# EAGLE library part REF5050 (library texas-instruments.2)
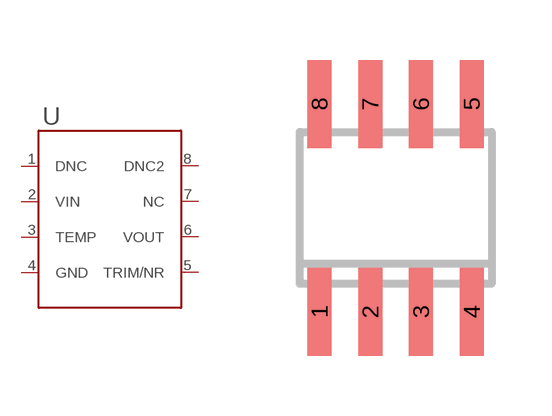
[diagram p2: symbol with the pads of SO-08; footprint SO-08]

Designator prefix -

## REF5050  [SO-08]
1  DNC
2  VIN
3  TEMP
4  GND
5  TRIM/NR
6  VOUT
7  NC
8  DNC2

## Footprint SO-08 (pad centres in mm)
D (R-PDSO-G8) Plastic Small Outline Package Source: http://focus.ti.com/lit/ds/symlink/sn65als176.pdf
smd 0.6 x 2.2: 1 -1.905,-2.6; 2 -0.635,-2.6; 3 0.635,-2.6; 4 1.905,-2.6; 5 1.905,2.6; 6 0.635,2.6; 7 -0.635,2.6; 8 -1.905,2.6